# Altium schematic symbol library Rx4.SchLib: 1 symbol
Pins are listed as number, name and electrical type; pins without a type are passive.

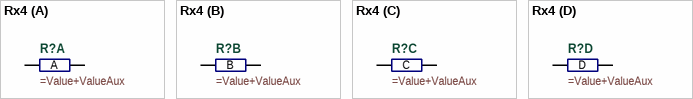
[diagram p0: symbol Rx4]

## Rx4
designator R?
=Description
part A pins: A1, A2
part B pins: B1, B2
part C pins: C1, C2
part D pins: D1, D2
part A text: A
part B text: B
part C text: C
part D text: D